# EAGLE library part 24CXX (library TABOR K1)
2-wire serial EEPROM
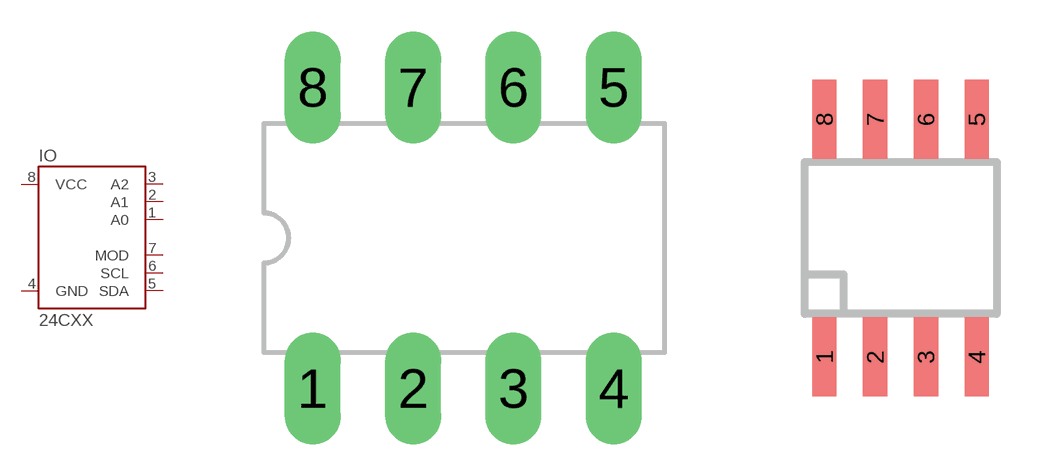
[diagram p32: symbol with the pads of DIL08; footprints DIL08, SO08]

Designator prefix IO

## 24CXXP  [DIL08]
1  A0  in
2  A1  in
3  A2  in
4  GND  pwr
5  SDA
6  SCL
7  MOD  in
8  VCC  pwr

## 24CXXSO08-SMD  [SO08]
Pads as for DIL08

## Footprint DIL08 (pad centres in mm)
Púzdro DIL08 : diera s pokovenim = 0,6 mm, vrtanie = 0,8mm
drill 0.813 pad 1.422 long: 1 -3.81,-3.81; 2 -1.27,-3.81; 3 1.27,-3.81; 4 3.81,-3.81; 5 3.81,3.81; 6 1.27,3.81; 7 -1.27,3.81; 8 -3.81,3.81

## Footprint SO08 (pad centres in mm)
Puzdro SO08 : cinova ploska = 0,86 mm
smd 0.61 x 1.981: 1 -1.905,-2.972; 2 -0.635,-2.972; 3 0.635,-2.972; 4 1.905,-2.972; 5 1.905,2.972; 6 0.635,2.972; 7 -0.635,2.972; 8 -1.905,2.972